# Altium schematic symbol library investigator_oring.SchLib: 2 symbols
Pins are listed as number, name and electrical type; pins without a type are passive.

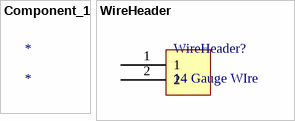
[diagram p0: symbols Component_1 to WireHeader]

## Component_1
designator *

## WireHeader
designator WireHeader?, comment 14 Gauge WIre
footprint WireHeader
pins: 1, 2